# Altium schematic symbol library Capacitor.SchLib: 2 symbols
Pins are listed as number, name and electrical type; pins without a type are passive.

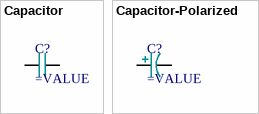
[diagram p0: symbols Capacitor to Capacitor-Polarized]

## Capacitor
designator C?
Capacitor
pins: 1, 2

## Capacitor-Polarized
designator C?
Capacitor
pins: 1, 2